# Altium footprint library PCB1.PcbLib: 30 footprints (part 2 of 2)
Each footprint in its own frame and in the unit in brackets; x right, y up, seen from the top. Pads: shape width x height; smd on the part's side, far side on the other; paste and mask are expansions set on the pad; w line width, h text height; cw(c..) or ccw(c..) is an arc to the next point about the centre after c.
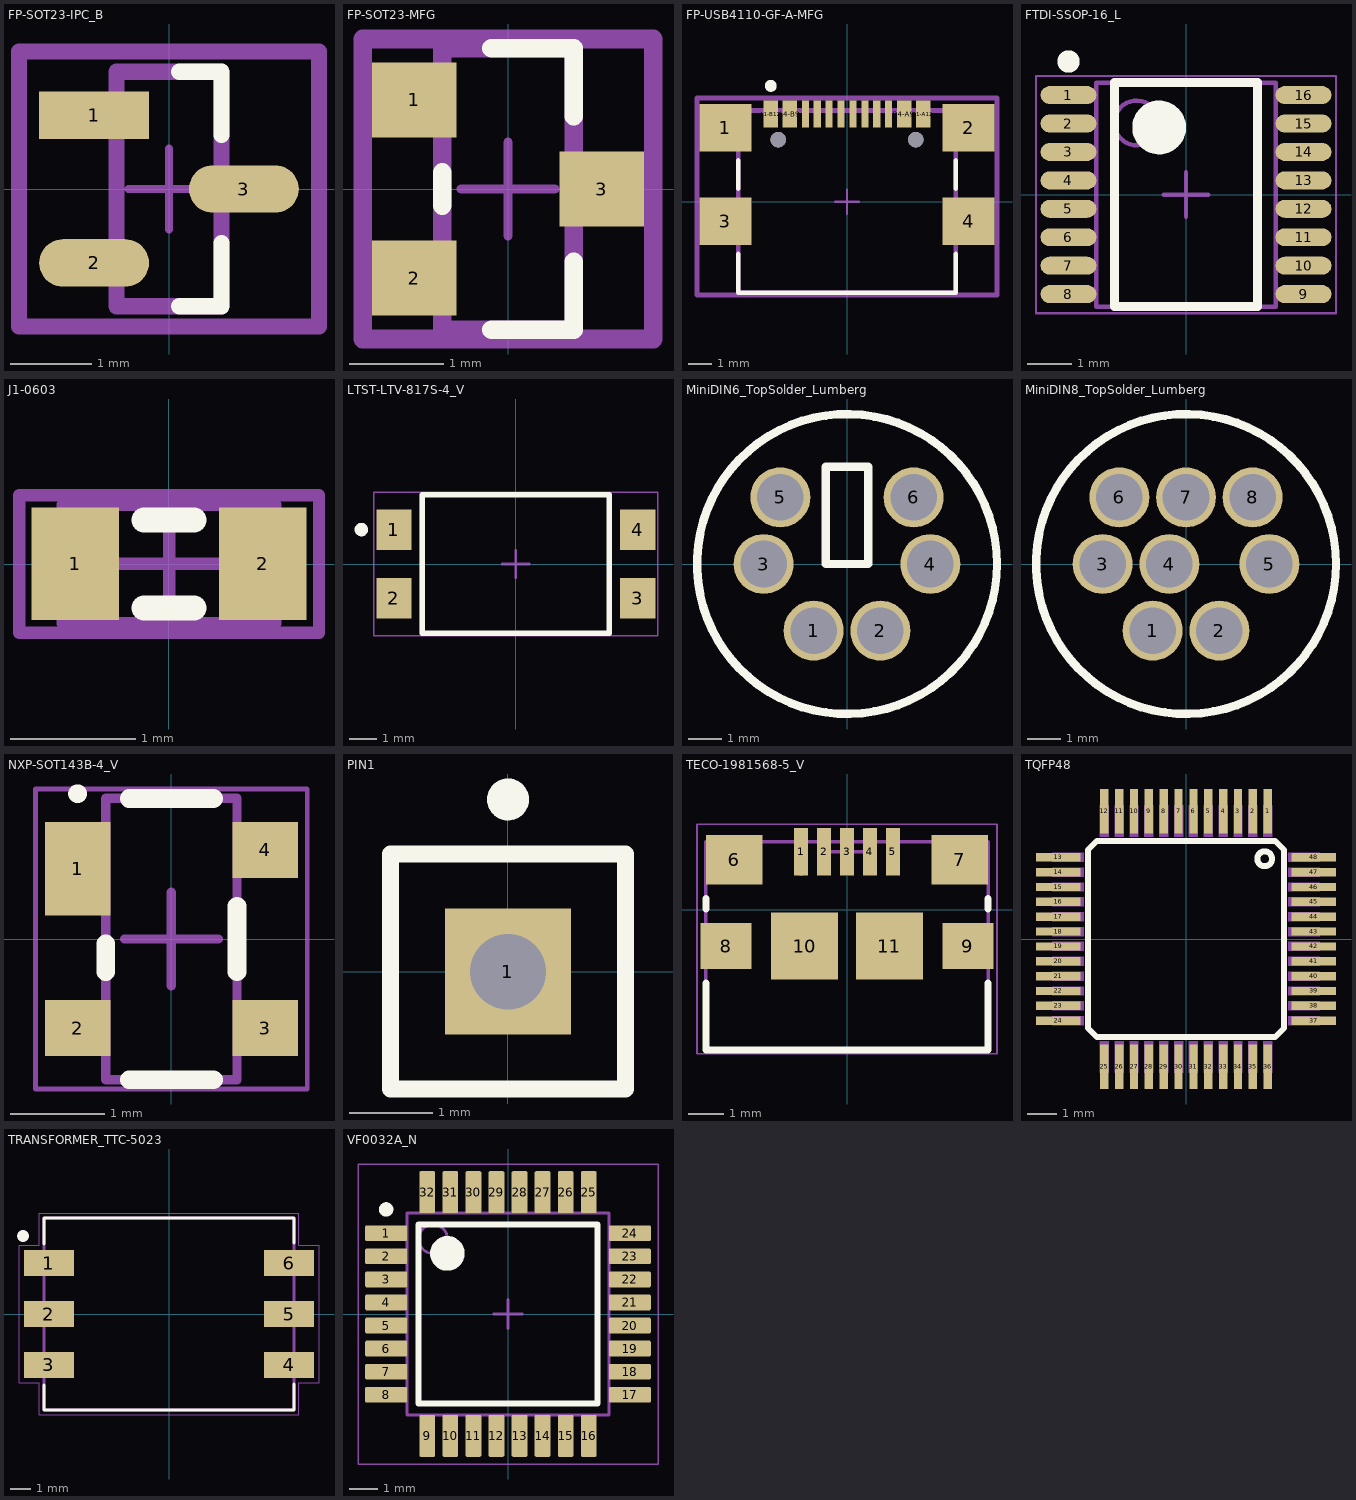
[diagram p1: the footprints below, top view; thin cyan lines are the x and y axes]

## FP-SOT23-IPC_B [mm]
height 0.6
pads (3):
  rect 1.359x0.587 smd paste+0 mask+0: 1(-0.927,0.915)
  rrect100% 1.359x0.587 smd paste+0 mask+0: 2(-0.927,-0.915) 3(0.927,0)
Top Overlay:
  lines w0.2: 0.128,-1.45 0.65,-1.45 0.65,-0.668 ; 0.128,1.45 0.65,1.45 0.65,0.668
Top 3D Body:
  lines w0.2: -0.65,-1.45 0.65,-1.45 0.65,1.45 -0.65,1.45 -0.65,-1.45
Top Courtyard:
  lines w0.2: -1.856,-1.7 1.856,-1.7 1.856,1.7 -1.856,1.7 -1.856,-1.7
Top Assembly:
  lines w0.2: -1.856,-1.7 1.856,-1.7 1.856,1.7 -1.856,1.7 -1.856,-1.7
  text ".Designator" at 0,-0.001 h1
Top Component Center:
  lines w0.1: -0.5,0 0.5,0 ; 0,-0.5 0,0.5
3D body "Diode_Diodes_Inc_BZX84C18-7-F_eec.STEP": height 0.25, standoff 0, extent -1.856,-1.7 1.856,1.7

## FP-SOT23-MFG [mm]
pads (3):
  rect 0.9x0.8 smd paste+0 mask+0: 1(-1,0.95) 2(-1,-0.95) 3(1,0)
Top Overlay:
  lines w0.2: -0.7,-0.175 -0.7,0.175 ; -0.175,-1.5 0.7,-1.5 0.7,-0.775 ; -0.175,1.5 0.7,1.5 0.7,0.775
Top 3D Body:
  lines w0.2: -0.7,-1.5 0.7,-1.5 0.7,1.5 -0.7,1.5 -0.7,-1.5
Top Courtyard:
  lines w0.2: -1.55,-1.6 1.55,-1.6 1.55,1.6 -1.55,1.6 -1.55,-1.6
Top Assembly:
  lines w0.2: -1.55,-1.6 1.55,-1.6 1.55,1.6 -1.55,1.6 -1.55,-1.6
  text ".Designator" at 0,-0.001 h1
Top Component Center:
  lines w0.1: -0.5,0 0.5,0 ; 0,-0.5 0,0.5
3D body "Trans_Diodes_Incorporated_BSS123-7-F_eec.STEP": height 0.25, standoff 0, extent -1.55,-1.6 1.55,1.6

## FP-USB4110-GF-A-MFG [mm]
pads (18):
  rect 2.18x2 smd paste+0 mask+0: 1(-5.11,3.105) 2(5.11,3.105) 3(-5.11,-0.825) 4(5.11,-0.825)
  rect 0.6x1.15 smd paste+0 mask+0: A1-B12(-3.2,3.68) A4-B9(-2.4,3.68) B1-A12(3.2,3.68) B4-A9(2.4,3.68)
  rect 0.3x1.15 smd paste+0 mask+0: A5(-1.25,3.68) A6(-0.25,3.68) A7(0.25,3.68) A8(1.25,3.68) B5(1.75,3.68) B6(0.75,3.68) B7(-0.75,3.68) B8(-1.75,3.68)
  round 0.65 hole 0.65 unplated paste-1000 mask+0: ""(-2.89,2.605) ""(2.89,2.605)
Top Overlay:
  circle w0.25: c-3.201,4.865 r0.125
  lines w0.2: -4.57,-2.2 -4.57,-3.825 4.57,-3.825 4.57,-2.2 ; -4.57,0.55 -4.57,1.73 ; 4.57,0.55 4.57,1.73
Top 3D Body:
  lines w0.2: -4.57,-3.825 4.57,-3.825 4.57,3.825 -4.57,3.825 -4.57,-3.825
Top Courtyard:
  lines w0.2: -6.3,-3.925 6.3,-3.925 6.3,4.355 -6.3,4.355 -6.3,-3.925
Top Assembly:
  lines w0.2: -6.3,-3.925 6.3,-3.925 6.3,4.355 -6.3,4.355 -6.3,-3.925
  text ".Designator" at 0,0.402 h1
Top Component Center:
  lines w0.1: -0.5,0 0.5,0 ; 0,-0.5 0,0.5
3D body "Conn_GCT_USB4110-GF-A_eec.STEP": height 0.25, standoff 0, extent -6.3,-3.925 6.3,4.355

## FTDI-SSOP-16_L [mm] "SOP, 16-Leads, Body 5x4mm, Pitch 0.635mm, IPC High Density"
height 1.76
pads (16):
  oval 1.25x0.4 smd: 1(-2.625,2.222) 2(-2.625,1.587) 3(-2.625,0.953) 4(-2.625,0.318) 5(-2.625,-0.318) 6(-2.625,-0.953) 7(-2.625,-1.587) 8(-2.625,-2.222) 9(2.625,-2.222) 10(2.625,-1.587) 11(2.625,-0.953) 12(2.625,-0.318) 13(2.625,0.318) 14(2.625,0.953) 15(2.625,1.587) 16(2.625,2.222)
Top Overlay:
  circle w0.6: c-0.6,1.5 r0.3
  circle w0.25: c-2.625,2.973 r0.125
  lines w0.2: -1.6,-2.5 1.6,-2.5 1.6,2.5 -1.6,2.5 -1.6,-2.5
Mechanical 13:
  circle w0.1: c-1.1,1.6 r0.5
  lines w0.1: -2,-2.5 2,-2.5 2,2.5 -2,2.5 -2,-2.5
Mechanical 15:
  lines w0.05: -3.35,-2.65 3.35,-2.65 3.35,2.65 -3.35,2.65 -3.35,-2.65
  lines w0.1: -0.5,0 0.5,0 ; 0,-0.5 0,0.5
3D body: height 1.76, standoff 0.1, extent -2,-2.5 2,2.5

## J1-0603 [mm] "Chip Resistor, Body 1.6x0.8mm, IPC High Density"
height 0.9
pads (2):
  rect 0.7x0.9 smd: 1(-0.75,0) 2(0.75,0)
Top Overlay:
  lines w0.2: -0.2,-0.35 0.2,-0.35 ; -0.2,0.35 0.2,0.35
Mechanical 13:
  lines w0.1: -0.85,-0.475 0.85,-0.475 0.85,0.475 -0.85,0.475 -0.85,-0.475
Mechanical 15:
  lines w0.1: -0.475,0 0.475,0 ; 0,-0.475 0,0.475 ; -1.2,-0.55 1.2,-0.55 1.2,0.55 -1.2,0.55 -1.2,-0.55
3D body: height 0.9, standoff 0, extent -0.85,-0.475 0.85,0.475

## LTST-LTV-817S-4_V [mm] "SMD, 4-Leads, Body 7x5.1mm, Pitch 2.54mm"
height 4.396
pads (4):
  rect 1.3x1.5 smd: 1(-4.5,1.27) 2(-4.5,-1.27) 3(4.5,-1.27) 4(4.5,1.27)
Top Overlay:
  circle w0.25: c-5.7,1.27 r0.125
  lines w0.2: -3.45,-2.55 -3.45,2.55 3.45,2.55 3.45,-2.55 -3.45,-2.55
Mechanical 13:
  lines w0.1: -3.5,-2.55 -3.5,2.55 3.5,2.55 3.5,-2.55 -3.5,-2.55
Mechanical 15:
  lines w0.05: -5.25,-2.65 -5.25,2.65 5.25,2.65 5.25,-2.65 -5.25,-2.65
  lines w0.1: -0.5,0 0.5,0 ; 0,-0.5 0,0.5
3D body: height 4.4, standoff 0.05, extent -3.5,-2.55 3.5,2.55

## MiniDIN6_TopSolder_Lumberg [mm] "Inner part of a lumberg MP-371 connector soldered directly on PCB"
height 0.6
pads (6):
  round 1.8 hole 1.4: 1(-1,-2) 2(1,-2) 3(-2.5,0) 4(2.5,0) 5(-2,2) 6(2,2)
Top Overlay:
  circle w0.254: c0,0 r4.5
  lines w0.254: -0.635,0 -0.635,2.921 0.635,2.921 0.635,0 -0.635,0
  text ".Designator" at -7.745,5.334 h1.52
Bottom Overlay:
  circle w0.254: c0,0 r4
  circle w0.254: c-2.667,-1.651 r0.458
3D body: height 5, standoff 0, extent -4.499,-4.499 4.499,4.499

## MiniDIN8_TopSolder_Lumberg [mm] "Inner part of a lumberg MP-371 connector soldered directly on PCB"
height 0.6
pads (8):
  round 1.8 hole 1.4: 1(-1,-2) 2(1,-2) 3(-2.5,0) 4(-0.5,0) 5(2.5,0) 6(-2,2) 7(0,2) 8(2,2)
Top Overlay:
  circle w0.254: c0,0 r4.5
  text ".Designator" at -7.745,5.334 h1.52
Bottom Overlay:
  circle w0.254: c-2.667,-1.651 r0.458
  circle w0.254: c0,0 r4
3D body: height 5, standoff 0, extent -4.499,-4.499 4.499,4.499

## NXP-SOT143B-4_V [mm] "SOT143, 4-Leads, Body 3x1.4mm"
height 1.1
pads (4):
  rect 0.7x1 smd: 1(-1,0.75)
  rect 0.7x0.6 smd: 2(-1,-0.95) 3(1,-0.95) 4(1,0.95)
Top Overlay:
  circle w0.1: c-1,1.55 r0.05
  lines w0.2: -0.7,-0.35 -0.7,-0.05 ; -0.45,-1.5 0.45,-1.5 ; -0.45,1.5 0.45,1.5 ; 0.7,-0.35 0.7,0.35
Mechanical 13:
  lines w0.1: -0.7,-1.5 -0.7,1.5 0.7,1.5 0.7,-1.5 -0.7,-1.5
Mechanical 15:
  lines w0.05: -1.45,-1.6 -1.45,1.6 1.45,1.6 1.45,-1.6 -1.45,-1.6
  lines w0.1: -0.5,0 0.5,0 ; 0,-0.5 0,0.5
3D body: height 1.1, standoff 0, extent -0.7,-1.5 0.7,1.5

## PIN1 [mm] "Connector; Plug"
height 0.6
pads (1):
  rect 1.5x1.5 hole 0.9: 1(0,0)
Top Overlay:
  circle w0.25: c0,2.05 r0.125
  lines w0.2: -1.4,-1.4 1.4,-1.4 1.4,1.4 -1.4,1.4 -1.4,-1.4

## TECO-1981568-5_V [mm] "SMD, 5-Leads, Body 8x5.9mm, Pitch 0.65mm"
height 3
pads (11):
  rect 0.4x1.35 smd: 1(-1.3,1.651) 2(-0.65,1.651) 3(0,1.651) 4(0.65,1.651) 5(1.3,1.651)
  rect 1.6x1.4 smd: 6(-3.2,1.426) 7(3.2,1.426)
  rect 1.45x1.3 smd: 8(-3.425,-1.024) 9(3.425,-1.024)
  rect 1.9x1.9 smd: 10(-1.2,-1.024) 11(1.2,-1.024)
Top Overlay:
  circle w0.1: c-1.3,1.075 r0.05
  lines w0.2: -4,-2.074 -4,-3.974 4,-3.974 4,-2.074 ; -4,0.026 -4,0.326 ; 4,0.026 4,0.326
Mechanical 13:
  lines w0.1: -4,-3.974 4,-3.974 4,1.926 -4,1.926 -4,-3.974
Mechanical 15:
  lines w0.05: -4.25,-4.074 -4.25,2.426 4.25,2.426 4.25,-4.074 -4.25,-4.074
  lines w0.1: -0.5,1.651 0.5,1.651 ; 0,1.151 0,2.151
3D body "c-1981568-1-h-3d.stp": height 2.81, standoff -0.27, extent -4,-3.683 4,1.917

## TQFP48 [mm]
pads (48):
  rect 0.28x1.5 smd paste-2: 1(2.75,4.3) 2(2.25,4.3) 3(1.75,4.3) 4(1.25,4.3) 5(0.75,4.3) 6(0.25,4.3) 7(-0.25,4.3) 8(-0.75,4.3) 9(-1.25,4.3) 10(-1.75,4.3) 11(-2.25,4.3) 12(-2.75,4.3) 25(-2.75,-4.3) 26(-2.25,-4.3) 27(-1.75,-4.3) 28(-1.25,-4.3) 29(-0.75,-4.3) 30(-0.25,-4.3) 31(0.25,-4.3) 32(0.75,-4.3) 33(1.25,-4.3) 34(1.75,-4.3) 35(2.25,-4.3) 36(2.75,-4.3)
  rect 1.5x0.28 smd paste-2: 13(-4.3,2.75) 14(-4.3,2.25) 15(-4.3,1.75) 16(-4.3,1.25) 17(-4.3,0.75) 18(-4.3,0.25) 19(-4.3,-0.25) 20(-4.3,-0.75) 21(-4.3,-1.25) 22(-4.3,-1.75) 23(-4.3,-2.25) 24(-4.3,-2.75) 37(4.3,-2.75) 38(4.3,-2.25) 39(4.3,-1.75) 40(4.3,-1.25) 41(4.3,-0.75) 42(4.3,-0.25) 43(4.3,0.25) 44(4.3,0.75) 45(4.3,1.25) 46(4.3,1.75) 47(4.3,2.25) 48(4.3,2.75)
Top Overlay:
  circle w0.203: c2.65,2.7 r0.25
  lines w0.203: -3.3,-3 -3.3,3 -3,3.3 3,3.3 3.3,3 3.3,-3 3,-3.3 -3,-3.3 -3.3,-3
Top Paste:
  drawing of 48 lines, arcs and shapes, not listed
Mechanical 13:
  drawing of 48 lines, arcs and shapes, not listed
3D body "LQFP-48_7x7mm_P0.5mm.step": height 1.5, standoff 0, extent -4.5,-4.5 4.5,4.5

## TRANSFORMER_TTC-5023 [mm]
height 7.6
pads (6):
  rect 2.5x1.3 smd: 1(-6,2.54) 2(-6,0) 3(-6,-2.54) 4(6,-2.54) 5(6,0) 6(6,2.54)
Top Overlay:
  circle w0.3: c-7.3,3.9 r0.141
  lines w0.127: -6.25,-3.55 -6.25,-4.8 6.25,-4.8 6.25,-3.5 ; -6.25,3.5 -6.25,4.8 6.25,4.8 6.25,3.55
Mechanical 13:
  circle w0.3: c-7.3,3.9 r0.141
  lines w0.127: -6.25,-4.8 6.25,-4.8 6.25,4.8 -6.25,4.8 -6.25,-4.8
Mechanical 15:
  lines w0.05: -7.5,-3.44 -6.5,-3.44 -6.5,-5.05 6.5,-5.05 6.5,-3.44 7.5,-3.44 7.5,3.44 6.5,3.44 6.5,5.05 -6.5,5.05 -6.5,3.44 -7.5,3.44 -7.5,-3.44
3D body: height 7.6, standoff 0.6, extent -6.249,-4.799 6.249,4.799

## VF0032A_N [mm] "QFP, 32-Leads, Body 7x7mm, Pitch 0.8mm, IPC Medium Density"
height 1.6
pads (32):
  rrect18% 1.45x0.55 smd: 1(-4.225,2.8) 2(-4.225,2) 3(-4.225,1.2) 4(-4.225,0.4) 5(-4.225,-0.4) 6(-4.225,-1.2) 7(-4.225,-2) 8(-4.225,-2.8) 17(4.225,-2.8) 18(4.225,-2) 19(4.225,-1.2) 20(4.225,-0.4) 21(4.225,0.4) 22(4.225,1.2) 23(4.225,2) 24(4.225,2.8)
  rrect18% 0.55x1.45 smd: 9(-2.8,-4.225) 10(-2,-4.225) 11(-1.2,-4.225) 12(-0.4,-4.225) 13(0.4,-4.225) 14(1.2,-4.225) 15(2,-4.225) 16(2.8,-4.225) 25(2.8,4.225) 26(2,4.225) 27(1.2,4.225) 28(0.4,4.225) 29(-0.4,4.225) 30(-1.2,4.225) 31(-2,4.225) 32(-2.8,4.225)
Top Overlay:
  circle w0.6: c-2.1,2.1 r0.3
  circle w0.25: c-4.225,3.625 r0.125
  lines w0.2: -3.1,-3.1 3.1,-3.1 3.1,3.1 -3.1,3.1 -3.1,-3.1
Mechanical 1:
  text ".Designator" at -1.524,-0.508 h1.02
Mechanical 13:
  circle w0.1: c-2.6,2.6 r0.5
  lines w0.1: -3.5,-3.5 3.5,-3.5 3.5,3.5 -3.5,3.5 -3.5,-3.5
Mechanical 15:
  lines w0.05: -5.2,-5.2 5.2,-5.2 5.2,5.2 -5.2,5.2 -5.2,-5.2
  lines w0.1: -0.5,0 0.5,0 ; 0,-0.5 0,0.5
3D body "VF0032A.stp": height 1.6, standoff 0, extent -4.505,-4.505 4.506,4.506